# Altium footprint library CP_NICHICON_UUX_10x10.PcbLib: 1 footprints
Each footprint in its own frame and in the unit in brackets; x right, y up, seen from the top. Pads: shape width x height; smd on the part's side, far side on the other; paste and mask are expansions set on the pad; w line width, h text height; cw(c..) or ccw(c..) is an arc to the next point about the centre after c.
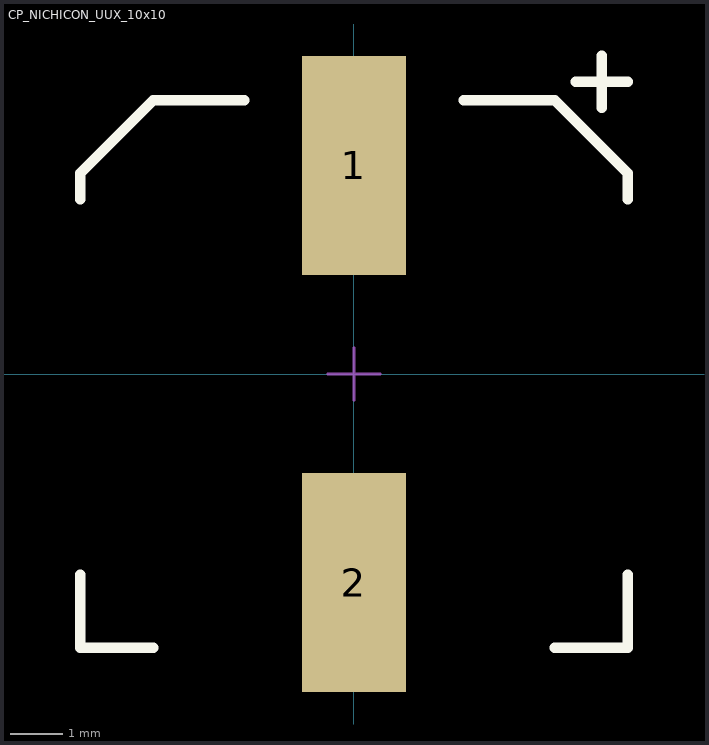
[diagram p0: the footprint, top view; thin cyan lines are the x and y axes]

## CP_NICHICON_UUX_10x10 [mm] "Nichicon UUX Series 10x10 SMD capacitor"
pads (2):
  rect 2x4.2 smd: 1(0,4) 2(0,-4)
Top Overlay:
  lines w0.2: -5.25,-3.85 -5.25,-5.25 -3.85,-5.25 ; -5.25,3.35 -5.25,3.85 -3.85,5.25 -2.1,5.25 ; 2.1,5.25 3.85,5.25 5.25,3.85 5.25,3.35 ; 3.85,-5.25 5.25,-5.25 5.25,-3.85 ; 4.25,5.6 5.25,5.6 ; 4.75,5.1 4.75,6.1
Mechanical 15:
  lines w0.05: -0.5,0 0.5,0 ; 0,-0.5 0,0.5
3D body "PCAP_10x10-ELECT-M.step": height 10.54, standoff 0, extent -5.245,-5.601 5.245,5.601